# Altium footprint library Miscellaneous PCB Lib.PcbLib: 2 footprints
Each footprint in its own frame and in the unit in brackets; x right, y up, seen from the top. Pads: shape width x height; smd on the part's side, far side on the other; paste and mask are expansions set on the pad; w line width, h text height; cw(c..) or ccw(c..) is an arc to the next point about the centre after c.
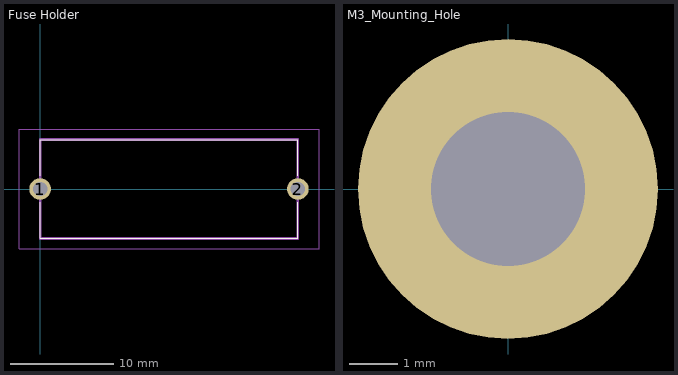
[diagram p0: the footprints below, top view; thin cyan lines are the x and y axes]

## Fuse Holder [mm]
pads (2):
  round 2.1 hole 1.4: 1(0,0) 2(25,0)
Top Overlay:
  lines w0.1: 0,-1.3 0,-4.8 25,-4.8 25,-1.3 ; 0,1.3 0,4.8 25,4.8 25,1.3
Mechanical 15:
  lines w0.254: 0,-4.8 0,4.8 25,4.8 25,-4.8 0,-4.8
Mechanical 20:
  lines w0.1: -2.05,-5.8 -2.05,5.8 27.05,5.8 27.05,-5.8 -2.05,-5.8
3D body "0031.8211.stp": height 11.5, standoff -4, extent -0.212,-4.8 25.231,4.8

## M3_Mounting_Hole [mm] "Plated Through Hole, M3"
pads (1):
  round 6.25 hole 3.2 paste+0: ""(0,0)
Mechanical 3:
  circle w0.254: c0,0 r2.843
  lines w0.254: -0.3,0 0.3,0 ; 0,-0.3 0,0.3